# Altium schematic symbol library DMG3415U-7.SchLib: 1 symbol
Pins are listed as number, name and electrical type; pins without a type are passive.

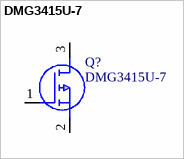
[diagram p0: symbol DMG3415U-7]

## DMG3415U-7
designator Q?
20V 4A 39mΩ@4.5V,4A 900mW P Channel SOT-23 MOSFETs ROHS; Manufacturer: Diodes Incorporated; Mfr.Part #: DMG3415U-7; Packaging: Tape & Reel (TR); Package: SOT-23; Datasheet: https://datasheet.lcsc.com/lcsc/1809191942_Diodes-Incorporated-DMG3415U-7_C96616.pdf; LCSC Part#: C96616
footprint SOT96P240X120-3N
pins: 1 G, 2 S, 3 D